# Altium integrated library GRM155R71C473KA01J.IntLib: 1 symbol
Pins are listed as number, name and electrical type; pins without a type are passive.

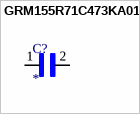
[diagram p0: symbol GRM155R71C473KA01J]

## GRM155R71C473KA01J
designator C?
SMD Capacitor X7R(EIA) with Capacitance: 47000pF Tol. 10%. Rated Voltage: 16Vdc; MP: GRM155R71C473KA01J; Package: None; Price: None; Value: *; Availability: Unavailable
footprint CAPC1005X55N
pins: 1, 2